# Altium footprint library HEADER-4PINM-2.54MM.PcbLib: 1 footprints
Each footprint in its own frame and in the unit in brackets; x right, y up, seen from the top. Pads: shape width x height; smd on the part's side, far side on the other; paste and mask are expansions set on the pad; w line width, h text height; cw(c..) or ccw(c..) is an arc to the next point about the centre after c.
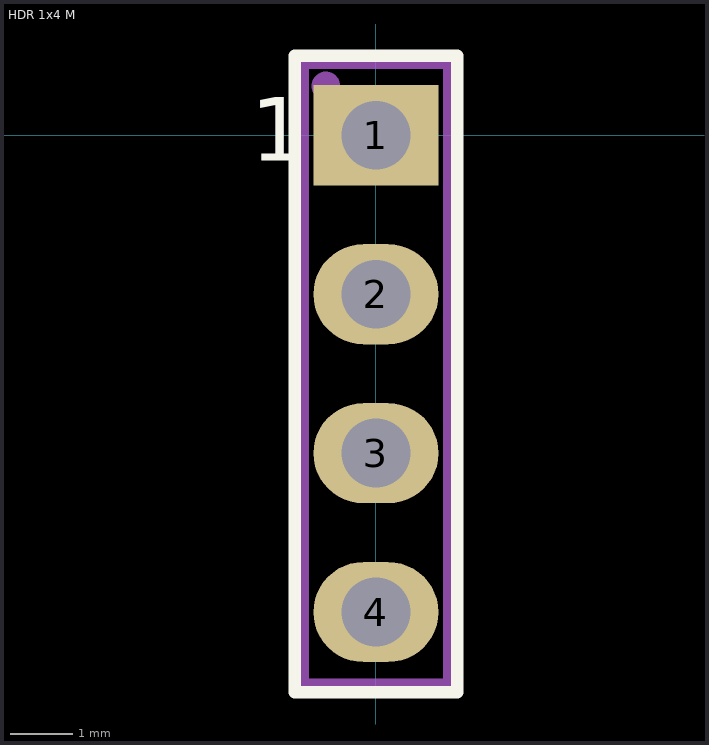
[diagram p0: the footprint, top view; thin cyan lines are the x and y axes]

## HDR 1x4 M [mm]
pads (4):
  rect 2x1.6 hole 1.1: 1(0,0)
  oval 2x1.6 hole 1.1: 2(0,-2.54) 3(0,-5.08) 4(0,-7.62)
Top Overlay:
  lines w0.2: -1.3,-8.9 1.3,-8.9 1.3,1.27 -1.3,1.27 -1.3,-8.9
  text "1" at -2,-0.41 h1.02
Mechanical 29:
  circle w0.254: c-0.8,0.79 r0.1
  lines w0.254: -1.2,-8.81 -1.2,1.19 1.2,1.19 1.2,-8.81 -1.2,-8.81
  text ".Designator" at 0.9,-8.41 h1.52
3D body "77311-118-04lf.stp": height 8.4, standoff -3.1, extent -1.2,-8.69 1.21,1.07